# EAGLE library part BUCK,LM2678S-ADJ (library BUCK, 5.2V - LM2678SX-ADJNOPB)
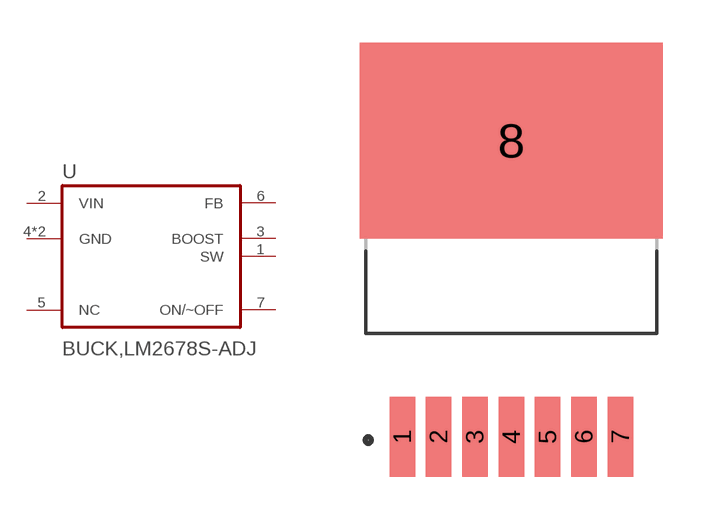
[diagram p0: symbol with the pads of TO127P1435X464-8N; footprint TO127P1435X464-8N]

Designator prefix U

## BUCK,LM2678S-ADJ (DESCRIPTION: 8V to 40V, 5A SIMPLE SWITCHER buck converter with high efficiency 7-DDPAK/TO-263 -40 to 125; DIGI-KEY_PART_NUMBER: 2156-LM2678S-ADJ/NOPB-TI-ND; MF: Texas Instruments; MP: LM2678S-ADJ; PACKAGE: TO-263-7 Texas Instruments; PURCHASE-URL: https://pricing.snapeda.com/search/part/LM2678S-ADJ/?ref=eda)  [TO127P1435X464-8N]
1  SW  out
2  VIN  in
3  BOOST  in
4  GND  pwr
5  NC
6  FB  in
7  ON/~OFF  in
8  GND  pwr

## Footprint TO127P1435X464-8N (pad centres in mm)
smd 0.89 x 2.79: 1 -3.81,-6.19; 2 -2.54,-6.19; 3 -1.27,-6.19; 4 0,-6.19; 5 1.27,-6.19; 6 2.54,-6.19; 7 3.81,-6.19
smd 10.58 x 6.84: 8 0,4.16